# EAGLE library part PICAXE08 (library cls)
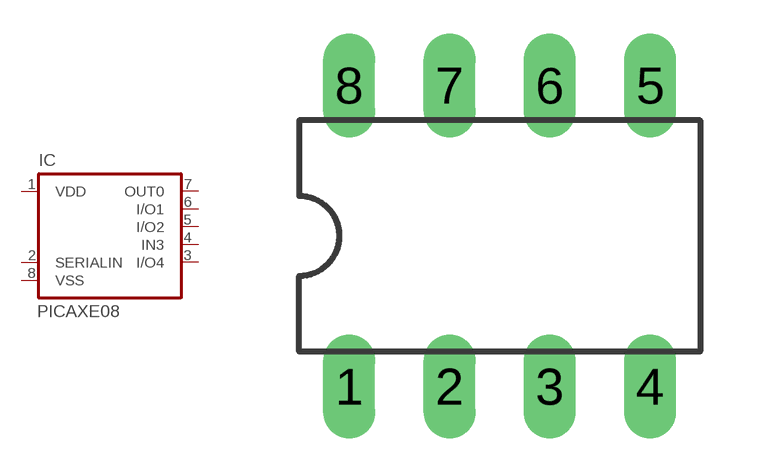
[diagram p9: symbol with the pads of DIL08; footprint DIL08]

Designator prefix IC

## PICAXE08  [DIL08]
1  VDD  pwr
2  SERIALIN
3  I/O4
4  IN3  in
5  I/O2
6  I/O1
7  OUT0
8  VSS  pwr

## Footprint DIL08 (pad centres in mm)
Dual In Line Package
drill 0.813 long: 1 -3.81,-3.81; 2 -1.27,-3.81; 3 1.27,-3.81; 4 3.81,-3.81; 5 3.81,3.81; 6 1.27,3.81; 7 -1.27,3.81; 8 -3.81,3.81